# Altium footprint library molex_minifit.PcbLib: 14 footprints
Each footprint in its own frame and in the unit in brackets; x right, y up, seen from the top. Pads: shape width x height; smd on the part's side, far side on the other; paste and mask are expansions set on the pad; w line width, h text height; cw(c..) or ccw(c..) is an arc to the next point about the centre after c.
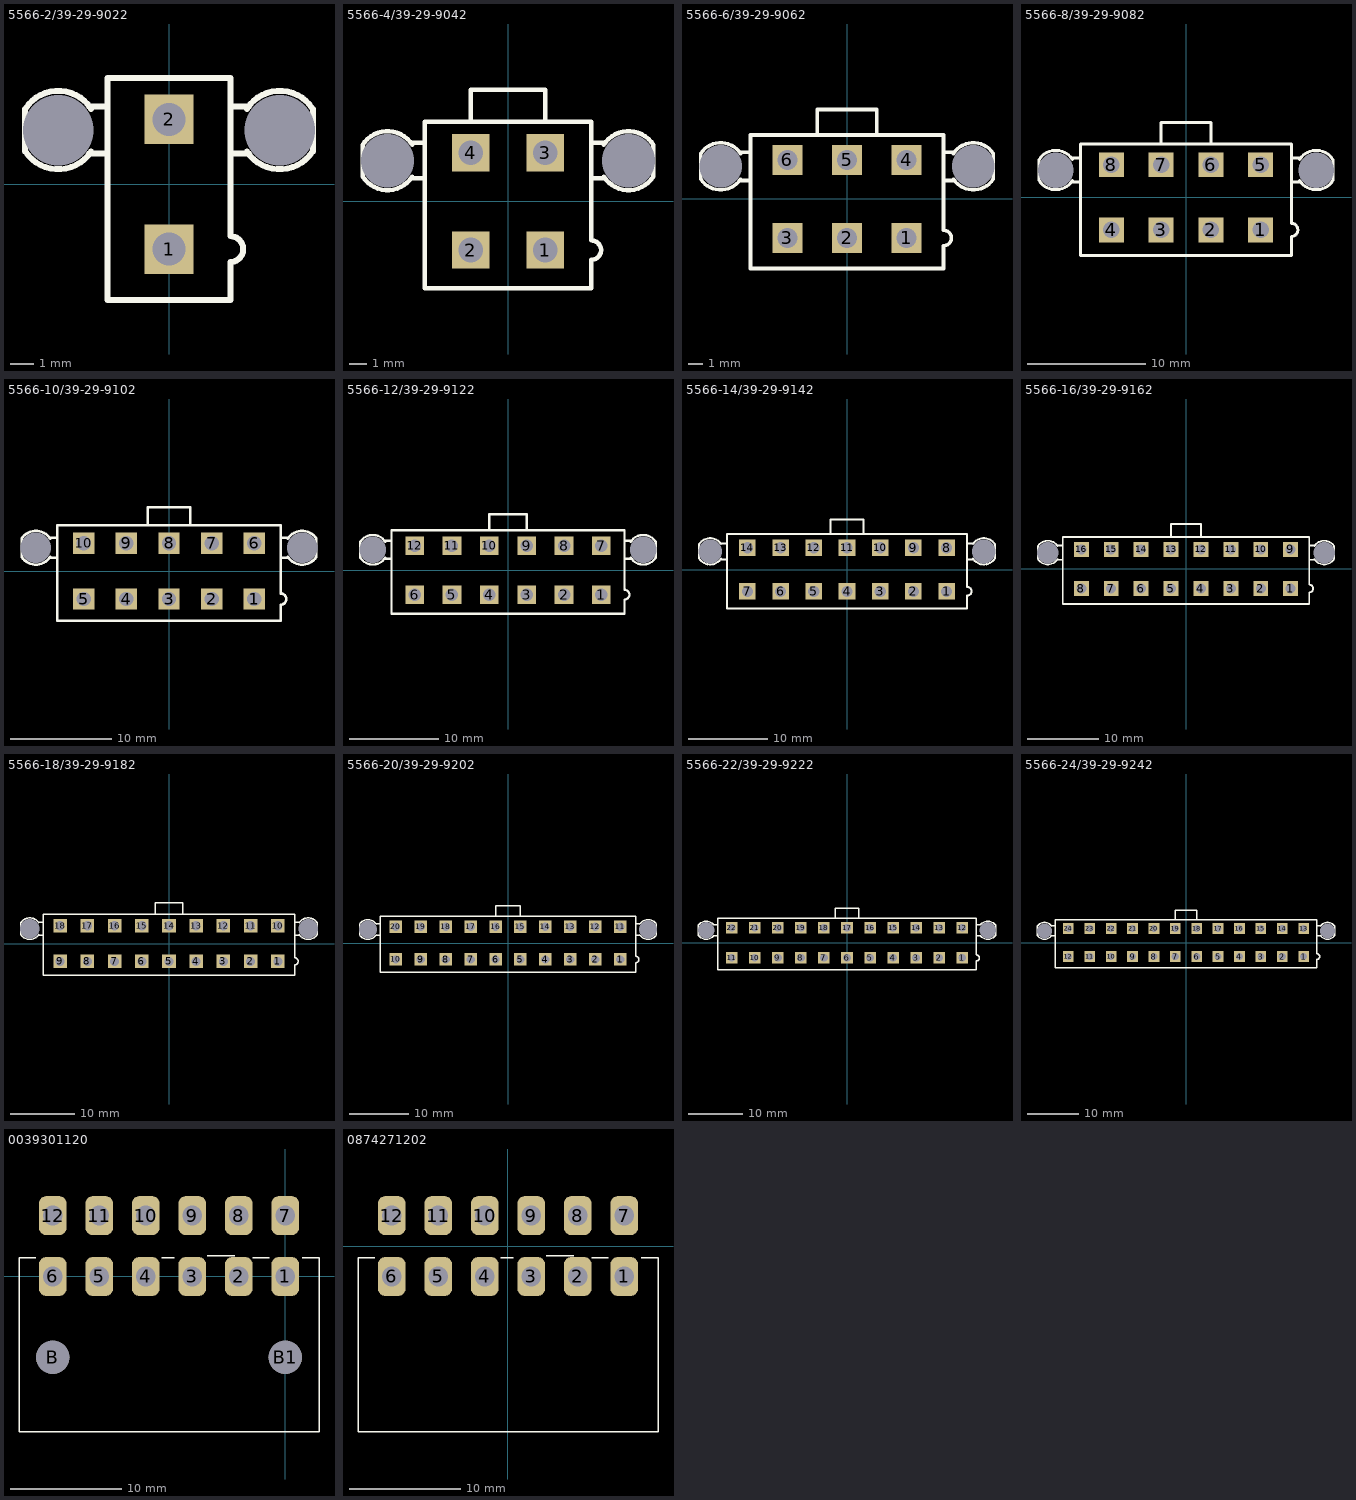
[diagram p0: the footprints below, top view; thin cyan lines are the x and y axes]

## 5566-2/39-29-9022 [mm]
pads (4):
  rect 2.1x2.1 hole 1.4: 1(0,-2.75) 2(0,2.75)
  round 0 hole 3 unplated: S(-4.7,2.29) S(4.7,2.29)
Top Overlay:
  lines w0.254: -3.4,1.3 -2.7,1.3 ; -3.4,3.3 -2.7,3.3 ; -3.3,1.4 cw(c-4.7,2.3) -6.1,1.4 -6.1,3.2 cw(c-4.7,2.3) -3.3,3.2 ; 2.7,1.3 3.4,1.3 ; 2.7,3.3 3.4,3.3 ; 3.3,1.4 ccw(c4.7,2.3) 6.1,1.4 6.1,3.2 ccw(c4.7,2.3) 3.3,3.2 ; -2.6,-4.9 2.6,-4.9 2.6,-3.3 ccw(c2.6,-2.75) 2.6,-2.2 2.6,4.5 -2.6,4.5 -2.6,-4.9
3D body "039299022.stp": height 12.8, standoff -3.5, extent -5.7,-4.953 5.7,6.047

## 5566-4/39-29-9042 [mm]
pads (6):
  rect 2.1x2.1 hole 1.4: 1(2.1,-2.75) 2(-2.1,-2.75) 3(2.1,2.75) 4(-2.1,2.75)
  round 0 hole 3 unplated: S(-6.8,2.29) S(6.8,2.29)
Top Overlay:
  lines w0.254: -5.5,1.3 -4.8,1.3 ; -5.5,3.3 -4.8,3.3 ; -5.4,1.4 cw(c-6.8,2.3) -8.2,1.4 -8.2,3.2 cw(c-6.8,2.3) -5.4,3.2 ; -2.1,4.6 -2.1,6.3 2.1,6.3 2.1,4.6 ; 4.8,1.3 5.5,1.3 ; 4.8,3.3 5.5,3.3 ; 5.4,1.4 ccw(c6.8,2.3) 8.2,1.4 8.2,3.2 ccw(c6.8,2.3) 5.4,3.2 ; -4.7,-4.9 -4.7,4.5 4.7,4.5 4.7,-2.2 cw(c4.7,-2.75) 4.7,-3.3 4.7,-4.9 -4.7,-4.9
3D body "039299042.stp": height 12.8, standoff -3.5, extent -8.189,-4.927 8.189,6.073

## 5566-6/39-29-9062 [mm]
pads (8):
  rect 2.1x2.1 hole 1.4: 1(4.2,-2.75) 2(0,-2.75) 3(-4.2,-2.75) 4(4.2,2.75) 5(0,2.75) 6(-4.2,2.75)
  round 0 hole 3 unplated: S(-8.9,2.29) S(8.9,2.29)
Top Overlay:
  lines w0.254: -7.6,1.3 -6.9,1.3 ; -7.6,3.3 -6.9,3.3 ; -7.5,1.4 cw(c-8.9,2.3) -10.3,1.4 -10.3,3.2 cw(c-8.9,2.3) -7.5,3.2 ; -2.1,4.6 -2.1,6.3 2.1,6.3 2.1,4.6 ; 6.9,1.3 7.6,1.3 ; 6.9,3.3 7.6,3.3 ; 7.5,1.4 ccw(c8.9,2.3) 10.3,1.4 10.3,3.2 ccw(c8.9,2.3) 7.5,3.2 ; -6.8,-4.9 6.8,-4.9 6.8,-3.3 ccw(c6.8,-2.75) 6.8,-2.2 6.8,4.5 -6.8,4.5 -6.8,-4.9
3D body "039299062.stp": height 12.8, standoff -3.5, extent -10.289,-4.953 10.289,6.047

## 5566-8/39-29-9082 [mm]
pads (10):
  rect 2.1x2.1 hole 1.4: 1(6.3,-2.75) 2(2.1,-2.75) 3(-2.1,-2.75) 4(-6.3,-2.75) 5(6.3,2.75) 6(2.1,2.75) 7(-2.1,2.75) 8(-6.3,2.75)
  round 0 hole 3 unplated: S(-11,2.29) S(11,2.29)
Top Overlay:
  lines w0.254: -9.7,1.3 -9,1.3 ; -9.7,3.3 -9,3.3 ; -9.6,1.4 cw(c-11,2.3) -12.4,1.4 -12.4,3.2 cw(c-11,2.3) -9.6,3.2 ; -2.1,4.6 -2.1,6.3 2.1,6.3 2.1,4.6 ; 9,1.3 9.7,1.3 ; 9,3.3 9.7,3.3 ; 9.6,1.4 ccw(c11,2.3) 12.4,1.4 12.4,3.2 ccw(c11,2.3) 9.6,3.2 ; -8.9,-4.9 8.9,-4.9 8.9,-3.3 ccw(c8.9,-2.75) 8.9,-2.2 8.9,4.5 -8.9,4.5 -8.9,-4.9
3D body "039299082.stp": height 12.8, standoff -3.5, extent -12.389,-4.826 12.389,6.174

## 5566-10/39-29-9102 [mm]
pads (12):
  rect 2.1x2.1 hole 1.4: 1(8.4,-2.75) 2(4.2,-2.75) 3(0,-2.75) 4(-4.2,-2.75) 5(-8.4,-2.75) 6(8.4,2.75) 7(4.2,2.75) 8(0,2.75) 9(-4.2,2.75) 10(-8.4,2.75)
  round 0 hole 3 unplated: S(-13.1,2.29) S(13.1,2.29)
Top Overlay:
  lines w0.254: -11.8,1.3 -11.1,1.3 ; -11.8,3.3 -11.1,3.3 ; -11.7,1.4 cw(c-13.1,2.3) -14.5,1.4 -14.5,3.2 cw(c-13.1,2.3) -11.7,3.2 ; -2.1,4.6 -2.1,6.3 2.1,6.3 2.1,4.6 ; 11.1,1.3 11.8,1.3 ; 11.1,3.3 11.8,3.3 ; 11.7,1.4 ccw(c13.1,2.3) 14.5,1.4 14.5,3.2 ccw(c13.1,2.3) 11.7,3.2 ; -11,-4.9 11,-4.9 11,-3.3 ccw(c11,-2.75) 11,-2.2 11,4.5 -11,4.5 -11,-4.9
3D body "039299102.stp": height 12.8, standoff -3.5, extent -14.489,-4.904 14.489,6.096

## 5566-12/39-29-9122 [mm]
pads (14):
  rect 2.1x2.1 hole 1.4: 1(10.5,-2.75) 2(6.3,-2.75) 3(2.1,-2.75) 4(-2.1,-2.75) 5(-6.3,-2.75) 6(-10.5,-2.75) 7(10.5,2.75) 8(6.3,2.75) 9(2.1,2.75) 10(-2.1,2.75) 11(-6.3,2.75) 12(-10.5,2.75)
  round 0 hole 3 unplated: S(-15.2,2.29) S(15.2,2.29)
Top Overlay:
  lines w0.254: -13.9,1.3 -13.2,1.3 ; -13.9,3.3 -13.2,3.3 ; -13.8,1.4 cw(c-15.2,2.3) -16.6,1.4 -16.6,3.2 cw(c-15.2,2.3) -13.8,3.2 ; -2.1,4.6 -2.1,6.3 2.1,6.3 2.1,4.6 ; 13.2,1.3 13.9,1.3 ; 13.2,3.3 13.9,3.3 ; 13.8,1.4 ccw(c15.2,2.3) 16.6,1.4 16.6,3.2 ccw(c15.2,2.3) 13.8,3.2 ; -13.1,-4.9 -13.1,4.5 13.1,4.5 13.1,-2.2 cw(c13.1,-2.75) 13.1,-3.3 13.1,-4.9 -13.1,-4.9
3D body "039299122.stp": height 12.8, standoff -3.5, extent -16.589,-4.927 16.589,6.073

## 5566-14/39-29-9142 [mm]
pads (16):
  rect 2.1x2.1 hole 1.4: 1(12.6,-2.75) 2(8.4,-2.75) 3(4.2,-2.75) 4(0,-2.75) 5(-4.2,-2.75) 6(-8.4,-2.75) 7(-12.6,-2.75) 8(12.6,2.75) 9(8.4,2.75) 10(4.2,2.75) 11(0,2.75) 12(-4.2,2.75) 13(-8.4,2.75) 14(-12.6,2.75)
  round 0 hole 3 unplated: S(-17.3,2.29) S(17.3,2.29)
Top Overlay:
  lines w0.254: -16,1.3 -15.3,1.3 ; -16,3.3 -15.3,3.3 ; -15.9,1.4 cw(c-17.3,2.3) -18.7,1.4 -18.7,3.2 cw(c-17.3,2.3) -15.9,3.2 ; -2.1,4.6 -2.1,6.3 2.1,6.3 2.1,4.6 ; 15.3,1.3 16,1.3 ; 15.3,3.3 16,3.3 ; 15.9,1.4 ccw(c17.3,2.3) 18.7,1.4 18.7,3.2 ccw(c17.3,2.3) 15.9,3.2 ; -15.2,-4.9 -15.2,4.5 15.2,4.5 15.2,-2.2 cw(c15.2,-2.75) 15.2,-3.3 15.2,-4.9 -15.2,-4.9
3D body "039299142.stp": height 12.8, standoff -3.5, extent -18.689,-4.927 18.689,6.073

## 5566-16/39-29-9162 [mm]
pads (18):
  rect 2.1x2.1 hole 1.4: 1(14.7,-2.75) 2(10.5,-2.75) 3(6.3,-2.75) 4(2.1,-2.75) 5(-2.1,-2.75) 6(-6.3,-2.75) 7(-10.5,-2.75) 8(-14.7,-2.75) 9(14.7,2.75) 10(10.5,2.75) 11(6.3,2.75) 12(2.1,2.75) 13(-2.1,2.75) 14(-6.3,2.75) 15(-10.5,2.75) 16(-14.7,2.75)
  round 0 hole 3 unplated: S(-19.4,2.29) S(19.4,2.29)
Top Overlay:
  lines w0.254: -18.1,1.3 -17.4,1.3 ; -18.1,3.3 -17.4,3.3 ; -18,1.4 cw(c-19.4,2.3) -20.8,1.4 -20.8,3.2 cw(c-19.4,2.3) -18,3.2 ; -2.1,4.6 -2.1,6.3 2.1,6.3 2.1,4.6 ; 17.4,1.3 18.1,1.3 ; 17.4,3.3 18.1,3.3 ; 18,1.4 ccw(c19.4,2.3) 20.8,1.4 20.8,3.2 ccw(c19.4,2.3) 18,3.2 ; -17.3,-4.9 17.3,-4.9 17.3,-3.3 ccw(c17.3,-2.75) 17.3,-2.2 17.3,4.5 -17.3,4.5 -17.3,-4.9
3D body "039299162.stp": height 12.8, standoff -3.5, extent -20.789,-4.927 20.789,6.073

## 5566-18/39-29-9182 [mm]
pads (20):
  rect 2.1x2.1 hole 1.4: 1(16.8,-2.75) 2(12.6,-2.75) 3(8.4,-2.75) 4(4.2,-2.75) 5(0,-2.75) 6(-4.2,-2.75) 7(-8.4,-2.75) 8(-12.6,-2.75) 9(-16.8,-2.75) 10(16.8,2.75) 11(12.6,2.75) 12(8.4,2.75) 13(4.2,2.75) 14(0,2.75) 15(-4.2,2.75) 16(-8.4,2.75) 17(-12.6,2.75) 18(-16.8,2.75)
  round 0 hole 3 unplated: S(-21.5,2.29) S(21.5,2.29)
Top Overlay:
  lines w0.254: -20.2,1.3 -19.5,1.3 ; -20.2,3.3 -19.5,3.3 ; -20.1,1.4 cw(c-21.5,2.3) -22.9,1.4 -22.9,3.2 cw(c-21.5,2.3) -20.1,3.2 ; -2.1,4.6 -2.1,6.3 2.1,6.3 2.1,4.6 ; 19.5,1.3 20.2,1.3 ; 19.5,3.3 20.2,3.3 ; 20.1,1.4 ccw(c21.5,2.3) 22.9,1.4 22.9,3.2 ccw(c21.5,2.3) 20.1,3.2 ; -19.4,-4.9 -19.4,4.5 19.4,4.5 19.4,-2.2 cw(c19.4,-2.75) 19.4,-3.3 19.4,-4.9 -19.4,-4.9
3D body "039299182.stp": height 12.8, standoff -3.5, extent -22.889,-4.927 22.889,6.073

## 5566-20/39-29-9202 [mm]
pads (22):
  rect 2.1x2.1 hole 1.4: 1(18.9,-2.75) 2(14.7,-2.75) 3(10.5,-2.75) 4(6.3,-2.75) 5(2.1,-2.75) 6(-2.1,-2.75) 7(-6.3,-2.75) 8(-10.5,-2.75) 9(-14.7,-2.75) 10(-18.9,-2.75) 11(18.9,2.75) 12(14.7,2.75) 13(10.5,2.75) 14(6.3,2.75) 15(2.1,2.75) 16(-2.1,2.75) 17(-6.3,2.75) 18(-10.5,2.75) 19(-14.7,2.75) 20(-18.9,2.75)
  round 0 hole 3 unplated: S(-23.6,2.29) S(23.6,2.29)
Top Overlay:
  lines w0.254: -22.3,1.3 -21.6,1.3 ; -22.3,3.3 -21.6,3.3 ; -22.2,1.4 cw(c-23.6,2.3) -25,1.4 -25,3.2 cw(c-23.6,2.3) -22.2,3.2 ; -2.1,4.6 -2.1,6.3 2.1,6.3 2.1,4.6 ; 21.6,1.3 22.3,1.3 ; 21.6,3.3 22.3,3.3 ; 22.2,1.4 ccw(c23.6,2.3) 25,1.4 25,3.2 ccw(c23.6,2.3) 22.2,3.2 ; -21.5,-4.9 -21.5,4.5 21.5,4.5 21.5,-2.2 cw(c21.5,-2.75) 21.5,-3.3 21.5,-4.9 -21.5,-4.9
3D body "039299202.stp": height 12.8, standoff -3.5, extent -24.989,-4.927 24.989,6.073

## 5566-22/39-29-9222 [mm]
pads (24):
  rect 2.1x2.1 hole 1.4: 1(21,-2.75) 2(16.8,-2.75) 3(12.6,-2.75) 4(8.4,-2.75) 5(4.2,-2.75) 6(0,-2.75) 7(-4.2,-2.75) 8(-8.4,-2.75) 9(-12.6,-2.75) 10(-16.8,-2.75) 11(-21,-2.75) 12(21,2.75) 13(16.8,2.75) 14(12.6,2.75) 15(8.4,2.75) 16(4.2,2.75) 17(0,2.75) 18(-4.2,2.75) 19(-8.4,2.75) 20(-12.6,2.75) 21(-16.8,2.75) 22(-21,2.75)
  round 0 hole 3 unplated: S(-25.7,2.29) S(25.7,2.29)
Top Overlay:
  lines w0.254: -24.4,1.3 -23.7,1.3 ; -24.4,3.3 -23.7,3.3 ; -24.3,1.4 cw(c-25.7,2.3) -27.1,1.4 -27.1,3.2 cw(c-25.7,2.3) -24.3,3.2 ; -2.1,4.6 -2.1,6.3 2.1,6.3 2.1,4.6 ; 23.7,1.3 24.4,1.3 ; 23.7,3.3 24.4,3.3 ; 24.3,1.4 ccw(c25.7,2.3) 27.1,1.4 27.1,3.2 ccw(c25.7,2.3) 24.3,3.2 ; -23.6,-4.9 23.6,-4.9 23.6,-3.3 ccw(c23.6,-2.75) 23.6,-2.2 23.6,4.5 -23.6,4.5 -23.6,-4.9
3D body "039299222.stp": height 12.8, standoff -3.5, extent -27.089,-4.927 27.089,6.073

## 5566-24/39-29-9242 [mm]
pads (26):
  rect 2.1x2.1 hole 1.4: 1(23.1,-2.75) 2(18.9,-2.75) 3(14.7,-2.75) 4(10.5,-2.75) 5(6.3,-2.75) 6(2.1,-2.75) 7(-2.1,-2.75) 8(-6.3,-2.75) 9(-10.5,-2.75) 10(-14.7,-2.75) 11(-18.9,-2.75) 12(-23.1,-2.75) 13(23.1,2.75) 14(18.9,2.75) 15(14.7,2.75) 16(10.5,2.75) 17(6.3,2.75) 18(2.1,2.75) 19(-2.1,2.75) 20(-6.3,2.75) 21(-10.5,2.75) 22(-14.7,2.75) 23(-18.9,2.75) 24(-23.1,2.75)
  round 0 hole 3 unplated: S(-27.8,2.29) S(27.8,2.29)
Top Overlay:
  lines w0.254: -26.5,1.3 -25.8,1.3 ; -26.5,3.3 -25.8,3.3 ; -26.4,1.4 cw(c-27.8,2.3) -29.2,1.4 -29.2,3.2 cw(c-27.8,2.3) -26.4,3.2 ; -2.1,4.6 -2.1,6.3 2.1,6.3 2.1,4.6 ; 25.8,1.3 26.5,1.3 ; 25.8,3.3 26.5,3.3 ; 26.4,1.4 ccw(c27.8,2.3) 29.2,1.4 29.2,3.2 ccw(c27.8,2.3) 26.4,3.2 ; -25.7,-4.9 25.7,-4.9 25.7,-3.3 ccw(c25.7,-2.75) 25.7,-2.2 25.7,4.5 -25.7,4.5 -25.7,-4.9
3D body "039299242.stp": height 12.8, standoff -3.5, extent -29.189,-4.927 29.189,6.073

## 0039301120 [mm]
pads (14):
  rrect50% 2.5x3.5 / inner round 2.5 / far side rrect50% 2.5x3.5 hole 1.8: 1(0,0) 2(-4.2,0) 3(-8.4,0) 4(-12.6,0) 5(-16.8,0) 6(-21,0) 7(0,5.5) 8(-4.2,5.5) 9(-8.4,5.5) 10(-12.6,5.5) 11(-16.8,5.5) 12(-21,5.5)
  round 3 hole 3 unplated: B(-21,-7.3) B1(0,-7.3)
Top Overlay:
  lines w0.127: -22.552,1.7 -24.05,1.7 -24.05,-14.025 -5.5,-14.025 ; -15.5,-14.025 3.05,-14.025 3.05,1.7 1.552,1.7 ; -11.168,1.7 -10.003,1.7 ; -7.044,1.854 -4.547,1.854 ; -2.94,1.7 -1.443,1.7
3D body "039301120.stp": height 11.01, standoff -3.99, extent -23.832,-13.882 2.968,6.053

## 0874271202 [mm]
pads (12):
  rrect50% 2.5x3.5 / inner round 2.5 / far side rrect50% 2.5x3.5 hole 1.8: 1(10.5,-2.75) 2(6.3,-2.75) 3(2.1,-2.75) 4(-2.1,-2.75) 5(-6.3,-2.75) 6(-10.5,-2.75) 7(10.5,2.75) 8(6.3,2.75) 9(2.1,2.75) 10(-2.1,2.75) 11(-6.3,2.75) 12(-10.5,2.75)
Top Overlay:
  lines w0.127: -12.052,-1.05 -13.55,-1.05 -13.55,-16.775 5,-16.775 ; -5,-16.775 13.55,-16.775 13.55,-1.05 12.052,-1.05 ; -0.668,-1.05 0.497,-1.05 ; 3.456,-0.896 5.953,-0.896 ; 7.56,-1.05 9.057,-1.05
3D body "874271202.stp": height 11.41, standoff -3.29, extent -13.85,-16.7 13.75,3.235